# Altium schematic symbol library 1_对外接口.schdoc.SCHLIB: 10 symbols
Pins are listed as number, name and electrical type; pins without a type are passive.

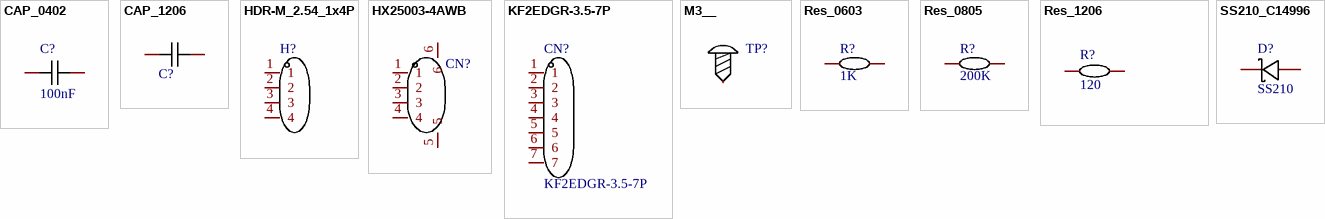
[diagram p0: symbols CAP_0402 to SS210_C14996]

## CAP_0402
designator C?, comment 100nF
Symbol: CapAcitance; Device: CAP_0402; Convert to PCB: yes; Add into BOM: yes; Supplier Footprint: 0402; Value: 100nF; Name: 100nF
footprint 0402C
3D model C0402_L1.0-W0.5-H0.5
pins: 1, 2

## CAP_1206
designator C?, comment 100nF  (value not drawn)
Symbol: CapAcitance; Device: CAP_1206; Convert to PCB: yes; Name: 100nF; Add into BOM: yes; Supplier Footprint: 1206; Value: 100nF
footprint C1206
3D model C1206_L3.2-W1.6-H1.3
pins: 1, 2

## HDR-M_2.54_1x4P
designator H?  (value not drawn)
Symbol: PZ254V-11-04P; Convert to PCB: yes; Device: HDR-M_2.54_1x4P; Add into BOM: yes; Supplier Part: C492403
footprint HDR-TH_4P-P2.54-V-M
3D model HDR-TH_4P-P2.54-M-LI-1X4P
pins: 1, 2, 3, 4

## HX25003-4AWB
designator CN?  (value not drawn)
Add into BOM: yes; Reference Series: XH; Pitch: 2.5mm; Pins Structure: 1x4P; Number of PINs Per Row: 4; Symbol: HX25003-4AWB; Device: HX25003-4AWB; Supplier Part: C442363; Manufacturer Part: HX25003-4AWB; Supplier Footprint: SMD,P=2.5mm; JLCPCB Part Class: Extended Part; Datasheet: https://atta.szlcsc.com/upload/public/pdf/source/20191028/C442363_5F1A00A27A9E9A3DE9CAD5B4615D2548.pdf; Supplier: LCSC; Convert to PCB: yes; Number of Rows: 1; Row Spacing: -; Current Rating (Max): -; Operating Temperature Range: -; Name: HX25003-4AWB
footprint CONN-SMD_4P-P2.50_HX25003-4AWB
3D model CONN-SMD_XH2.50-WS-4P
pins: 1, 2, 3, 4, 5, 6

## KF2EDGR-3.5-7P
designator CN?
Add into BOM: yes; Pitch: 3.5mm; Number of PINs Per Row: 7; Current Rating (Max): 8A; Voltage Rating (Max): 300V; Name: KF2EDGR-3.5-7P; Symbol: KF2EDGR-3.5-7P; Device: KF2EDGR-3.5-7P; Supplier Part: C441176; Manufacturer Part: KF2EDGR-3.5-7P; JLCPCB Part Class: Extended Part; Datasheet: https://atta.szlcsc.com/upload/public/pdf/source/20230331/72E4E5AAB7D73656319D871C62219080.pdf; Supplier: LCSC; Convert to PCB: yes; Number of Rows: 1
footprint CONN-TH_7P-P3.50_KF2EDGR-3.5-7P
3D model CONN-TH_7P-P3.50_KF2EDGR-3.5-7P
pins: 1, 2, 3, 4, 5, 6, 7

## M3__
designator TP?
Convert to PCB: yes; Add into BOM: yes
pins: 1

## Res_0603
designator R?, comment 1K
Device: Res_0603; Convert to PCB: yes; Name: 1K; Add into BOM: yes; Supplier Footprint: 0603; Value: 1K
footprint 0603C
3D model R0603
pins: 1, 2

## Res_0805
designator R?, comment 200K
Device: Res_0805; Convert to PCB: yes; Name: 200K; Add into BOM: yes; Supplier Footprint: 0805; Value: 200K
footprint R0805
3D model R0805_L2.0-W1.3-H0.6
pins: 1, 2

## Res_1206
designator R?, comment 120
Device: Res_1206; Add into BOM: yes; Name: 120; Supplier Footprint: 1206; Convert to PCB: yes; Value: 120
footprint R1206
3D model R1206_L3.2-W1.6-H0.6
pins: 1, 2

## SS210_C14996
designator D?, comment SS210
Manufacturer: MDD; Device: SS210_C14996; Add into BOM: yes; Reverse Voltage (Vr): 100V; Average Rectified Current (Io): 2A; Forward Voltage (Vf@If): 850mV@2A; Name: SS210; Symbol: SS210; LCSC Part Name: 100V 2A 850mV@2A; Supplier Part: C14996; Manufacturer Part: SS210; Supplier Footprint: SMA(DO-214AC); JLCPCB Part Class: Basic Part; Datasheet: https://atta.szlcsc.com/upload/public/pdf/source/20190304/C14996_C9642665EC53B919CC87DB9E28DB3D1C.pdf; Supplier: LCSC; Convert to PCB: yes
footprint SMA_L4.3-W2.6-LS5.2-RD
3D model SMA_L4.3-W2.6-LS5.2-RD
pins: 1 K, 2 A